# Altium footprint library AMP Footprints.PcbLib: 903 footprints (part 2 of 58)
Each footprint in its own frame and in the unit in brackets; x right, y up, seen from the top. Pads: shape width x height; smd on the part's side, far side on the other; paste and mask are expansions set on the pad; w line width, h text height; cw(c..) or ccw(c..) is an arc to the next point about the centre after c.
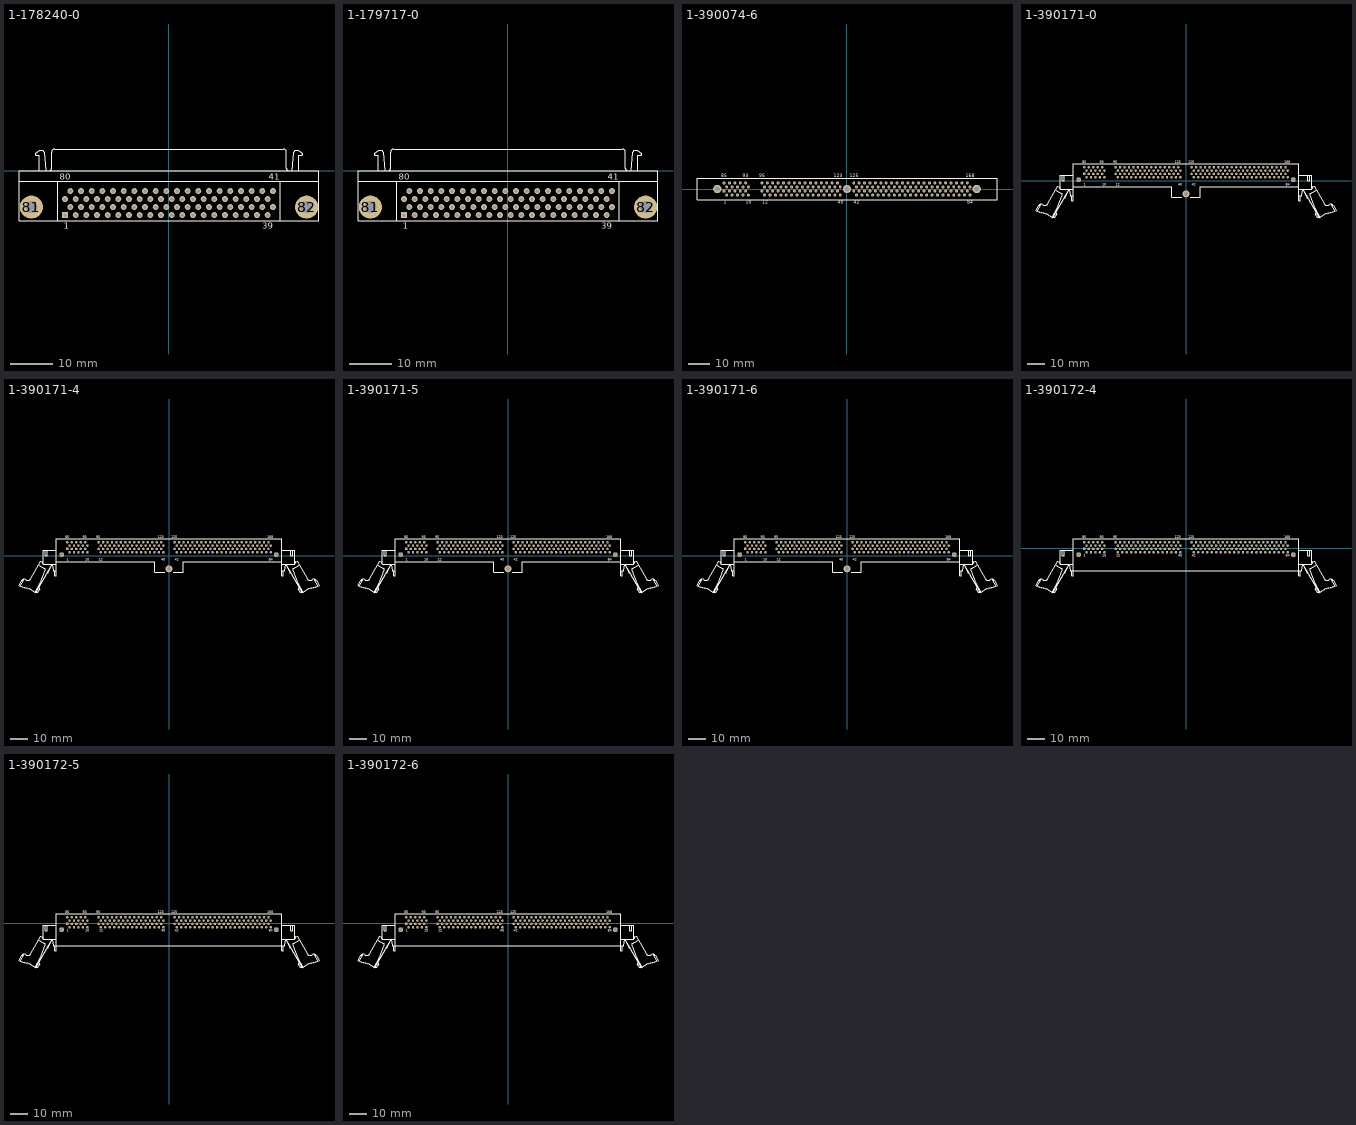
[diagram p1: the footprints below, top view; thin cyan lines are the x and y axes]

## 1-178240-0 [mm] "Connector; CHAMP Miniature Ribbon 050 Series II; 80 Position; Right Angle"
height 9.6
pads (82):
  rect 1.4x1.4 hole 0.8: 1(-24.765,-10.5)
  round 1.4 hole 0.8: 2(-23.495,-8.595) 3(-22.225,-10.5) 4(-20.955,-8.595) 5(-19.685,-10.5) 6(-18.415,-8.595) 7(-17.145,-10.5) 8(-15.875,-8.595) 9(-14.605,-10.5) 10(-13.335,-8.595) 11(-12.065,-10.5) 12(-10.795,-8.595) 13(-9.525,-10.5) 14(-8.255,-8.595) 15(-6.985,-10.5) 16(-5.715,-8.595) 17(-4.445,-10.5) 18(-3.175,-8.595) 19(-1.905,-10.5) 20(-0.635,-8.595) 21(0.635,-10.5) 22(1.905,-8.595) 23(3.175,-10.5) 24(4.445,-8.595) 25(5.715,-10.5) 26(6.985,-8.595) 27(8.255,-10.5) 28(9.525,-8.595) 29(10.795,-10.5) 30(12.065,-8.595) 31(13.335,-10.5) 32(14.605,-8.595) 33(15.875,-10.5) 34(17.145,-8.595) 35(18.415,-10.5) 36(19.685,-8.595) 37(20.955,-10.5) 38(22.225,-8.595) 39(23.495,-10.5) 40(24.765,-8.595) 41(24.765,-4.785) 42(23.495,-6.69) 43(22.225,-4.785) 44(20.955,-6.69) 45(19.685,-4.785) 46(18.415,-6.69) 47(17.145,-4.785) 48(15.875,-6.69) 49(14.605,-4.785) 50(13.335,-6.69) 51(12.065,-4.785) 52(10.795,-6.69) 53(9.525,-4.785) 54(8.255,-6.69) 55(6.985,-4.785) 56(5.715,-6.69) 57(4.445,-4.785) 58(3.175,-6.69) 59(1.905,-4.785) 60(0.635,-6.69) 61(-0.635,-4.785) 62(-1.905,-6.69) 63(-3.175,-4.785) 64(-4.445,-6.69) 65(-5.715,-4.785) 66(-6.985,-6.69) 67(-8.255,-4.785) 68(-9.525,-6.69) 69(-10.795,-4.785) 70(-12.065,-6.69) 71(-13.335,-4.785) 72(-14.605,-6.69) 73(-15.875,-4.785) 74(-17.145,-6.69) 75(-18.415,-4.785) 76(-19.685,-6.69) 77(-20.955,-4.785) 78(-22.225,-6.69) 79(-23.495,-4.785) 80(-24.765,-6.69)
  round 5.5 hole 2.8: 81(-32.775,-8.595) 82(32.775,-8.595)
Top Overlay:
  lines w0.2: -35.725,-2.5 35.725,-2.5 ; -31.74,4.27 -30.8,4.898 -30.078,4.898 cw(c-30.18,4.5) -29.77,4.5 ; -31.726,4.255 ccw(c-31.5,4.01) -31.75,3.79 -30.87,3.79 -30.87,0 ; -29.77,4.52 -29.4,0 ; -28.66,0.005 ccw(c-28.66,0.7) -27.965,0.7 -27.965,4.5 ; -27.96,4.505 cw(c-27.265,4.505) -27.265,5.2 27.265,5.2 cw(c27.265,4.505) 27.96,4.505 ; -26.52,-11.8 -26.52,-2.58 ; 26.52,-11.8 26.52,-2.5 ; 27.965,4.5 27.965,0.7 ccw(c28.66,0.7) 28.66,0.005 ; 29.4,0 29.77,4.52 ; 29.77,4.5 cw(c30.18,4.5) 30.078,4.898 30.8,4.898 31.74,4.27 ; 30.87,0 30.87,3.79 31.75,3.79 ccw(c31.5,4.01) 31.726,4.255 ; -35.725,-11.8 35.725,-11.8 35.725,0 -35.725,0 -35.725,-11.8
  text "41" at 23.765,-2.025 h1.5
  text "80" at -26.015,-2.025 h1.5
  text "39" at 22.245,-13.775 h1.5
  text "1" at -25.015,-13.775 h1.5

## 1-179717-0 [mm] "Connector; CHAMP Miniature Ribbon 050 Series II; 80 Position; Right Angle"
height 9.6
pads (82):
  rect 1.4x1.4 hole 0.8: 1(-24.765,-10.5)
  round 1.4 hole 0.8: 2(-23.495,-8.595) 3(-22.225,-10.5) 4(-20.955,-8.595) 5(-19.685,-10.5) 6(-18.415,-8.595) 7(-17.145,-10.5) 8(-15.875,-8.595) 9(-14.605,-10.5) 10(-13.335,-8.595) 11(-12.065,-10.5) 12(-10.795,-8.595) 13(-9.525,-10.5) 14(-8.255,-8.595) 15(-6.985,-10.5) 16(-5.715,-8.595) 17(-4.445,-10.5) 18(-3.175,-8.595) 19(-1.905,-10.5) 20(-0.635,-8.595) 21(0.635,-10.5) 22(1.905,-8.595) 23(3.175,-10.5) 24(4.445,-8.595) 25(5.715,-10.5) 26(6.985,-8.595) 27(8.255,-10.5) 28(9.525,-8.595) 29(10.795,-10.5) 30(12.065,-8.595) 31(13.335,-10.5) 32(14.605,-8.595) 33(15.875,-10.5) 34(17.145,-8.595) 35(18.415,-10.5) 36(19.685,-8.595) 37(20.955,-10.5) 38(22.225,-8.595) 39(23.495,-10.5) 40(24.765,-8.595) 41(24.765,-4.785) 42(23.495,-6.69) 43(22.225,-4.785) 44(20.955,-6.69) 45(19.685,-4.785) 46(18.415,-6.69) 47(17.145,-4.785) 48(15.875,-6.69) 49(14.605,-4.785) 50(13.335,-6.69) 51(12.065,-4.785) 52(10.795,-6.69) 53(9.525,-4.785) 54(8.255,-6.69) 55(6.985,-4.785) 56(5.715,-6.69) 57(4.445,-4.785) 58(3.175,-6.69) 59(1.905,-4.785) 60(0.635,-6.69) 61(-0.635,-4.785) 62(-1.905,-6.69) 63(-3.175,-4.785) 64(-4.445,-6.69) 65(-5.715,-4.785) 66(-6.985,-6.69) 67(-8.255,-4.785) 68(-9.525,-6.69) 69(-10.795,-4.785) 70(-12.065,-6.69) 71(-13.335,-4.785) 72(-14.605,-6.69) 73(-15.875,-4.785) 74(-17.145,-6.69) 75(-18.415,-4.785) 76(-19.685,-6.69) 77(-20.955,-4.785) 78(-22.225,-6.69) 79(-23.495,-4.785) 80(-24.765,-6.69)
  round 5.5 hole 2.8: 81(-32.775,-8.595) 82(32.775,-8.595)
Top Overlay:
  lines w0.2: -35.725,-2.5 35.725,-2.5 ; -31.74,4.27 -30.8,4.898 -30.078,4.898 cw(c-30.18,4.5) -29.77,4.5 ; -31.726,4.255 ccw(c-31.5,4.01) -31.75,3.79 -30.87,3.79 -30.87,0 ; -29.77,4.52 -29.4,0 ; -28.66,0.005 ccw(c-28.66,0.7) -27.965,0.7 -27.965,4.5 ; -27.96,4.505 cw(c-27.265,4.505) -27.265,5.2 27.265,5.2 cw(c27.265,4.505) 27.96,4.505 ; -26.52,-11.8 -26.52,-2.58 ; 26.52,-11.8 26.52,-2.5 ; 27.965,4.5 27.965,0.7 ccw(c28.66,0.7) 28.66,0.005 ; 29.4,0 29.77,4.52 ; 29.77,4.5 cw(c30.18,4.5) 30.078,4.898 30.8,4.898 31.74,4.27 ; 30.87,0 30.87,3.79 31.75,3.79 ccw(c31.5,4.01) 31.726,4.255 ; -35.725,-11.8 35.725,-11.8 35.725,0 -35.725,0 -35.725,-11.8
  text "41" at 23.765,-2.025 h1.5
  text "80" at -26.015,-2.025 h1.5
  text "39" at 22.245,-13.775 h1.5
  text "1" at -25.015,-13.775 h1.5

## 1-390074-6 [mm] "Connector; DIMM II; 168 Position; Vertical"
height 23.77
pads (171):
  rect 1.4x1.4 hole 0.81: 1(-57.785,-0.95)
  round 1.4 hole 0.81: 2(-56.515,-2.85) 3(-55.245,-0.95) 4(-53.975,-2.85) 5(-52.705,-0.95) 6(-51.435,-2.85) 7(-50.165,-0.95) 8(-48.895,-2.85) 9(-47.625,-0.95) 10(-46.355,-2.85) 11(-40.005,-0.95) 12(-38.735,-2.85) 13(-37.465,-0.95) 14(-36.195,-2.85) 15(-34.925,-0.95) 16(-33.655,-2.85) 17(-32.385,-0.95) 18(-31.115,-2.85) 19(-29.845,-0.95) 20(-28.575,-2.85) 21(-27.305,-0.95) 22(-26.035,-2.85) 23(-24.765,-0.95) 24(-23.495,-2.85) 25(-22.225,-0.95) 26(-20.955,-2.85) 27(-19.685,-0.95) 28(-18.415,-2.85) 29(-17.145,-0.95) 30(-15.875,-2.85) 31(-14.605,-0.95) 32(-13.335,-2.85) 33(-12.065,-0.95) 34(-10.795,-2.85) 35(-9.525,-0.95) 36(-8.255,-2.85) 37(-6.985,-0.95) 38(-5.715,-2.85) 39(-4.445,-0.95) 40(-3.175,-2.85) 41(3.175,-0.95) 42(4.445,-2.85) 43(5.715,-0.95) 44(6.985,-2.85) 45(8.255,-0.95) 46(9.525,-2.85) 47(10.795,-0.95) 48(12.065,-2.85) 49(13.335,-0.95) 50(14.605,-2.85) 51(15.875,-0.95) 52(17.145,-2.85) 53(18.415,-0.95) 54(19.685,-2.85) 55(20.955,-0.95) 56(22.225,-2.85) 57(23.495,-0.95) 58(24.765,-2.85) 59(26.035,-0.95) 60(27.305,-2.85) 61(28.575,-0.95) 62(29.845,-2.85) 63(31.115,-0.95) 64(32.385,-2.85) 65(33.655,-0.95) 66(34.925,-2.85) 67(36.195,-0.95) 68(37.465,-2.85) 69(38.735,-0.95) 70(40.005,-2.85) 71(41.275,-0.95) 72(42.545,-2.85) 73(43.815,-0.95) 74(45.085,-2.85) 75(46.355,-0.95) 76(47.625,-2.85) 77(48.895,-0.95) 78(50.165,-2.85) 79(51.435,-0.95) 80(52.705,-2.85) 81(53.975,-0.95) 82(55.245,-2.85) 83(56.515,-0.95) 84(57.785,-2.85) 85(-57.785,2.85) 86(-56.515,0.95) 87(-55.245,2.85) 88(-53.975,0.95) 89(-52.705,2.85) 90(-51.435,0.95) 91(-50.165,2.85) 92(-48.895,0.95) 93(-47.625,2.85) 94(-46.355,0.95) 95(-40.005,2.85) 96(-38.735,0.95) 97(-37.465,2.85) 98(-36.195,0.95) 99(-34.925,2.85) 100(-33.655,0.95) 101(-32.385,2.85) 102(-31.115,0.95) 103(-29.845,2.85) 104(-28.575,0.95) 105(-27.305,2.85) 106(-26.035,0.95) 107(-24.765,2.85) 108(-23.495,0.95) 109(-22.225,2.85) 110(-20.955,0.95) 111(-19.685,2.85) 112(-18.415,0.95) 113(-17.145,2.85) 114(-15.875,0.95) 115(-14.605,2.85) 116(-13.335,0.95) 117(-12.065,2.85) 118(-10.795,0.95) 119(-9.525,2.85) 120(-8.255,0.95) 121(-6.985,2.85) 122(-5.715,0.95) 123(-4.445,2.85) 124(-3.175,0.95) 125(3.175,2.85) 126(4.445,0.95) 127(5.715,2.85) 128(6.985,0.95) 129(8.255,2.85) 130(9.525,0.95) 131(10.795,2.85) 132(12.065,0.95) 133(13.335,2.85) 134(14.605,0.95) 135(15.875,2.85) 136(17.145,0.95) 137(18.415,2.85) 138(19.685,0.95) 139(20.955,2.85) 140(22.225,0.95) 141(23.495,2.85) 142(24.765,0.95) 143(26.035,2.85) 144(27.305,0.95) 145(28.575,2.85) 146(29.845,0.95) 147(31.115,2.85) 148(32.385,0.95) 149(33.655,2.85) 150(34.925,0.95) 151(36.195,2.85) 152(37.465,0.95) 153(38.735,2.85) 154(40.005,0.95) 155(41.275,2.85) 156(42.545,0.95) 157(43.815,2.85) 158(45.085,0.95) 159(46.355,2.85) 160(47.625,0.95) 161(48.895,2.85) 162(50.165,0.95) 163(51.435,2.85) 164(52.705,0.95) 165(53.975,2.85) 166(55.245,0.95) 167(56.515,2.85) 168(57.785,0.95)
  round 3.9 hole 2.44: 169(-60.955,0) 170(0,0) 171(60.955,0)
Top Overlay:
  lines w0.2: -70.49,-5 70.49,-5 70.49,5 -70.49,5 -70.49,-5
  text "95" at -41.255,5.475 h1.5
  text "12" at -39.86,-6.975 h1.5
  text "1" at -58.035,-6.975 h1.5
  text "85" at -59.035,5.475 h1.5
  text "10" at -47.48,-6.975 h1.5
  text "93" at -48.875,5.475 h1.5
  text "40" at -4.425,-6.975 h1.5
  text "42" at 3.195,-6.975 h1.5
  text "123" at -6.32,5.475 h1.5
  text "125" at 1.3,5.475 h1.5
  text "84" at 56.535,-6.975 h1.5
  text "168" at 55.91,5.475 h1.5

## 1-390171-0 [mm] "Connector; DIMM; 168 Position; Right Angle"
height 13.2
pads (171):
  rect 1.4x1.4 hole 0.81: 1(-57.785,3.755)
  round 1.4 hole 0.81: 2(-56.515,1.855) 3(-55.245,3.755) 4(-53.975,1.855) 5(-52.705,3.755) 6(-51.435,1.855) 7(-50.165,3.755) 8(-48.895,1.855) 9(-47.625,3.755) 10(-46.355,1.855) 11(-40.005,3.755) 12(-38.735,1.855) 13(-37.465,3.755) 14(-36.195,1.855) 15(-34.925,3.755) 16(-33.655,1.855) 17(-32.385,3.755) 18(-31.115,1.855) 19(-29.845,3.755) 20(-28.575,1.855) 21(-27.305,3.755) 22(-26.035,1.855) 23(-24.765,3.755) 24(-23.495,1.855) 25(-22.225,3.755) 26(-20.955,1.855) 27(-19.685,3.755) 28(-18.415,1.855) 29(-17.145,3.755) 30(-15.875,1.855) 31(-14.605,3.755) 32(-13.335,1.855) 33(-12.065,3.755) 34(-10.795,1.855) 35(-9.525,3.755) 36(-8.255,1.855) 37(-6.985,3.755) 38(-5.715,1.855) 39(-4.445,3.755) 40(-3.175,1.855) 41(3.175,3.755) 42(4.445,1.855) 43(5.715,3.755) 44(6.985,1.855) 45(8.255,3.755) 46(9.525,1.855) 47(10.795,3.755) 48(12.065,1.855) 49(13.335,3.755) 50(14.605,1.855) 51(15.875,3.755) 52(17.145,1.855) 53(18.415,3.755) 54(19.685,1.855) 55(20.955,3.755) 56(22.225,1.855) 57(23.495,3.755) 58(24.765,1.855) 59(26.035,3.755) 60(27.305,1.855) 61(28.575,3.755) 62(29.845,1.855) 63(31.115,3.755) 64(32.385,1.855) 65(33.655,3.755) 66(34.925,1.855) 67(36.195,3.755) 68(37.465,1.855) 69(38.735,3.755) 70(40.005,1.855) 71(41.275,3.755) 72(42.545,1.855) 73(43.815,3.755) 74(45.085,1.855) 75(46.355,3.755) 76(47.625,1.855) 77(48.895,3.755) 78(50.165,1.855) 79(51.435,3.755) 80(52.705,1.855) 81(53.975,3.755) 82(55.245,1.855) 83(56.515,3.755) 84(57.785,1.855) 85(-57.785,7.555) 86(-56.515,5.655) 87(-55.245,7.555) 88(-53.975,5.655) 89(-52.705,7.555) 90(-51.435,5.655) 91(-50.165,7.555) 92(-48.895,5.655) 93(-47.625,7.555) 94(-46.355,5.655) 95(-40.005,7.555) 96(-38.735,5.655) 97(-37.465,7.555) 98(-36.195,5.655) 99(-34.925,7.555) 100(-33.655,5.655) 101(-32.385,7.555) 102(-31.115,5.655) 103(-29.845,7.555) 104(-28.575,5.655) 105(-27.305,7.555) 106(-26.035,5.655) 107(-24.765,7.555) 108(-23.495,5.655) 109(-22.225,7.555) 110(-20.955,5.655) 111(-19.685,7.555) 112(-18.415,5.655) 113(-17.145,7.555) 114(-15.875,5.655) 115(-14.605,7.555) 116(-13.335,5.655) 117(-12.065,7.555) 118(-10.795,5.655) 119(-9.525,7.555) 120(-8.255,5.655) 121(-6.985,7.555) 122(-5.715,5.655) 123(-4.445,7.555) 124(-3.175,5.655) 125(3.175,7.555) 126(4.445,5.655) 127(5.715,7.555) 128(6.985,5.655) 129(8.255,7.555) 130(9.525,5.655) 131(10.795,7.555) 132(12.065,5.655) 133(13.335,7.555) 134(14.605,5.655) 135(15.875,7.555) 136(17.145,5.655) 137(18.415,7.555) 138(19.685,5.655) 139(20.955,7.555) 140(22.225,5.655) 141(23.495,7.555) 142(24.765,5.655) 143(26.035,7.555) 144(27.305,5.655) 145(28.575,7.555) 146(29.845,5.655) 147(31.115,7.555) 148(32.385,5.655) 149(33.655,7.555) 150(34.925,5.655) 151(36.195,7.555) 152(37.465,5.655) 153(38.735,7.555) 154(40.005,5.655) 155(41.275,7.555) 156(42.545,5.655) 157(43.815,7.555) 158(45.085,5.655) 159(46.355,7.555) 160(47.625,5.655) 161(48.895,7.555) 162(50.165,5.655) 163(51.435,7.555) 164(52.705,5.655) 165(53.975,7.555) 166(55.245,5.655) 167(56.515,7.555) 168(57.785,5.655)
  round 2.778 hole 1.778: 169(-60.96,0.445) 171(60.96,0.445)
  round 3.94 hole 2.44: 170(0,-7.555)
Top Overlay:
  lines w0.25: -84.364,-17.363 -83.299,-17.978 -83.129,-17.683 -82.072,-18.293 -81.991,-18.271 -81.871,-18.064 -80.918,-18.614 -80.803,-18.414 -79.85,-18.964 -79.705,-18.713 -75.652,-21.053 -66.372,-4.98 -68.472,-9.755 -69.13,-9.755 ; -83.575,-14.216 cw(c-82.222,-14.997) -81.441,-13.644 ; -83.54,-14.155 -85.22,-17.065 -84.467,-17.5 -84.372,-17.335 -82.138,-13.487 ; -81.44,-13.647 -80.959,-13.925 ccw(c-80.125,-12.48) -78.679,-13.314 ; -78.664,-13.31 -72.924,-3.368 -71.52,-2.855 ; -75.999,-20.853 -73.049,-15.744 -70.225,-8.333 ccw(c-70.844,-8.118) -70.588,-7.515 ; -75.622,-21.001 -74.612,-20.972 -73.507,-19.058 -73.92,-18.173 ; -74.124,-5.446 -70.469,-7.556 ; -71.52,-4.675 -72.028,-4.167 -71.52,-3.659 ; -70.32,2.945 -70.32,-0.085 -69.07,-0.085 -69.07,2.945 ; -66.4,-4.925 -65.76,-8.775 -64,-8.775 ; -65.04,-8.805 -65.04,-11.525 -64,-11.525 -64,-8.775 ; -64,-4.855 -71.52,-4.855 -71.52,2.945 -64,2.945 ; -64,-3.555 -8.115,-3.555 -8.115,-9.555 -2.5,-9.555 ; 2.5,-9.555 8.115,-9.555 8.115,-3.555 64,-3.555 ; 64,-4.855 71.52,-4.855 71.52,2.945 64,2.945 ; 65.04,-8.805 65.04,-11.525 64,-11.525 64,-8.775 ; 66.4,-4.925 65.76,-8.775 64,-8.775 ; 69.07,2.945 69.07,-0.085 70.32,-0.085 70.32,2.945 ; 69.13,-9.755 68.472,-9.755 66.372,-4.98 75.652,-21.053 79.705,-18.713 79.85,-18.964 80.803,-18.414 80.918,-18.614 81.871,-18.064 81.991,-18.271 82.072,-18.293 83.129,-17.683 83.299,-17.978 84.364,-17.363 ; 70.469,-7.556 74.124,-5.446 ; 70.588,-7.515 ccw(c70.844,-8.118) 70.225,-8.333 73.049,-15.744 75.999,-20.853 ; 71.52,-4.675 72.028,-4.167 71.52,-3.659 ; 71.52,-2.855 72.924,-3.368 78.664,-13.31 ; 73.92,-18.173 73.507,-19.058 74.612,-20.972 75.622,-21.001 ; 78.679,-13.314 ccw(c80.125,-12.48) 80.959,-13.925 81.44,-13.647 ; 81.441,-13.644 cw(c82.222,-14.997) 83.575,-14.216 ; 82.138,-13.487 84.372,-17.335 84.467,-17.5 85.22,-17.065 83.54,-14.155 ; -64,-8.775 -64,2.945 ; -64,2.945 -64,9.445 64,9.445 64,2.945 ; 64,-8.775 64,2.945
  text "1" at -58.035,-3.08 h1.5
  text "85" at -59.035,9.92 h1.5
  text "10" at -47.48,-3.08 h1.5
  text "93" at -48.875,9.92 h1.5
  text "95" at -41.255,9.92 h1.5
  text "40" at -4.425,-3.08 h1.5
  text "123" at -6.32,9.92 h1.5
  text "125" at 1.3,9.92 h1.5
  text "42" at 3.195,-3.08 h1.5
  text "84" at 56.535,-3.08 h1.5
  text "168" at 55.91,9.92 h1.5
  text "12" at -39.86,-3.08 h1.5

## 1-390171-4 [mm] "Connector; DIMM; 168 Position; Right Angle"
height 14.85
pads (171):
  rect 1.4x1.4 hole 0.81: 1(-57.785,3.755)
  round 1.4 hole 0.81: 2(-56.515,1.855) 3(-55.245,3.755) 4(-53.975,1.855) 5(-52.705,3.755) 6(-51.435,1.855) 7(-50.165,3.755) 8(-48.895,1.855) 9(-47.625,3.755) 10(-46.355,1.855) 11(-40.005,3.755) 12(-38.735,1.855) 13(-37.465,3.755) 14(-36.195,1.855) 15(-34.925,3.755) 16(-33.655,1.855) 17(-32.385,3.755) 18(-31.115,1.855) 19(-29.845,3.755) 20(-28.575,1.855) 21(-27.305,3.755) 22(-26.035,1.855) 23(-24.765,3.755) 24(-23.495,1.855) 25(-22.225,3.755) 26(-20.955,1.855) 27(-19.685,3.755) 28(-18.415,1.855) 29(-17.145,3.755) 30(-15.875,1.855) 31(-14.605,3.755) 32(-13.335,1.855) 33(-12.065,3.755) 34(-10.795,1.855) 35(-9.525,3.755) 36(-8.255,1.855) 37(-6.985,3.755) 38(-5.715,1.855) 39(-4.445,3.755) 40(-3.175,1.855) 41(3.175,3.755) 42(4.445,1.855) 43(5.715,3.755) 44(6.985,1.855) 45(8.255,3.755) 46(9.525,1.855) 47(10.795,3.755) 48(12.065,1.855) 49(13.335,3.755) 50(14.605,1.855) 51(15.875,3.755) 52(17.145,1.855) 53(18.415,3.755) 54(19.685,1.855) 55(20.955,3.755) 56(22.225,1.855) 57(23.495,3.755) 58(24.765,1.855) 59(26.035,3.755) 60(27.305,1.855) 61(28.575,3.755) 62(29.845,1.855) 63(31.115,3.755) 64(32.385,1.855) 65(33.655,3.755) 66(34.925,1.855) 67(36.195,3.755) 68(37.465,1.855) 69(38.735,3.755) 70(40.005,1.855) 71(41.275,3.755) 72(42.545,1.855) 73(43.815,3.755) 74(45.085,1.855) 75(46.355,3.755) 76(47.625,1.855) 77(48.895,3.755) 78(50.165,1.855) 79(51.435,3.755) 80(52.705,1.855) 81(53.975,3.755) 82(55.245,1.855) 83(56.515,3.755) 84(57.785,1.855) 85(-57.785,7.555) 86(-56.515,5.655) 87(-55.245,7.555) 88(-53.975,5.655) 89(-52.705,7.555) 90(-51.435,5.655) 91(-50.165,7.555) 92(-48.895,5.655) 93(-47.625,7.555) 94(-46.355,5.655) 95(-40.005,7.555) 96(-38.735,5.655) 97(-37.465,7.555) 98(-36.195,5.655) 99(-34.925,7.555) 100(-33.655,5.655) 101(-32.385,7.555) 102(-31.115,5.655) 103(-29.845,7.555) 104(-28.575,5.655) 105(-27.305,7.555) 106(-26.035,5.655) 107(-24.765,7.555) 108(-23.495,5.655) 109(-22.225,7.555) 110(-20.955,5.655) 111(-19.685,7.555) 112(-18.415,5.655) 113(-17.145,7.555) 114(-15.875,5.655) 115(-14.605,7.555) 116(-13.335,5.655) 117(-12.065,7.555) 118(-10.795,5.655) 119(-9.525,7.555) 120(-8.255,5.655) 121(-6.985,7.555) 122(-5.715,5.655) 123(-4.445,7.555) 124(-3.175,5.655) 125(3.175,7.555) 126(4.445,5.655) 127(5.715,7.555) 128(6.985,5.655) 129(8.255,7.555) 130(9.525,5.655) 131(10.795,7.555) 132(12.065,5.655) 133(13.335,7.555) 134(14.605,5.655) 135(15.875,7.555) 136(17.145,5.655) 137(18.415,7.555) 138(19.685,5.655) 139(20.955,7.555) 140(22.225,5.655) 141(23.495,7.555) 142(24.765,5.655) 143(26.035,7.555) 144(27.305,5.655) 145(28.575,7.555) 146(29.845,5.655) 147(31.115,7.555) 148(32.385,5.655) 149(33.655,7.555) 150(34.925,5.655) 151(36.195,7.555) 152(37.465,5.655) 153(38.735,7.555) 154(40.005,5.655) 155(41.275,7.555) 156(42.545,5.655) 157(43.815,7.555) 158(45.085,5.655) 159(46.355,7.555) 160(47.625,5.655) 161(48.895,7.555) 162(50.165,5.655) 163(51.435,7.555) 164(52.705,5.655) 165(53.975,7.555) 166(55.245,5.655) 167(56.515,7.555) 168(57.785,5.655)
  round 2.778 hole 1.778: 169(-60.96,0.445) 171(60.96,0.445)
  round 3.94 hole 2.44: 170(0,-7.555)
Top Overlay:
  lines w0.25: -84.364,-17.363 -83.299,-17.978 -83.129,-17.683 -82.072,-18.293 -81.991,-18.271 -81.871,-18.064 -80.918,-18.614 -80.803,-18.414 -79.85,-18.964 -79.705,-18.713 -75.652,-21.053 -66.372,-4.98 -68.472,-9.755 -69.13,-9.755 ; -83.575,-14.216 cw(c-82.222,-14.997) -81.441,-13.644 ; -83.54,-14.155 -85.22,-17.065 -84.467,-17.5 -84.372,-17.335 -82.138,-13.487 ; -81.44,-13.647 -80.959,-13.925 ccw(c-80.125,-12.48) -78.679,-13.314 ; -78.664,-13.31 -72.924,-3.368 -71.52,-2.855 ; -75.999,-20.853 -73.049,-15.744 -70.225,-8.333 ccw(c-70.844,-8.118) -70.588,-7.515 ; -75.622,-21.001 -74.612,-20.972 -73.507,-19.058 -73.92,-18.173 ; -74.124,-5.446 -70.469,-7.556 ; -71.52,-4.675 -72.028,-4.167 -71.52,-3.659 ; -70.32,2.945 -70.32,-0.085 -69.07,-0.085 -69.07,2.945 ; -66.4,-4.925 -65.76,-8.775 -64,-8.775 ; -65.04,-8.805 -65.04,-11.525 -64,-11.525 -64,-8.775 ; -64,-4.855 -71.52,-4.855 -71.52,2.945 -64,2.945 ; -64,-3.555 -8.115,-3.555 -8.115,-9.555 -2.5,-9.555 ; 2.5,-9.555 8.115,-9.555 8.115,-3.555 64,-3.555 ; 64,-4.855 71.52,-4.855 71.52,2.945 64,2.945 ; 65.04,-8.805 65.04,-11.525 64,-11.525 64,-8.775 ; 66.4,-4.925 65.76,-8.775 64,-8.775 ; 69.07,2.945 69.07,-0.085 70.32,-0.085 70.32,2.945 ; 69.13,-9.755 68.472,-9.755 66.372,-4.98 75.652,-21.053 79.705,-18.713 79.85,-18.964 80.803,-18.414 80.918,-18.614 81.871,-18.064 81.991,-18.271 82.072,-18.293 83.129,-17.683 83.299,-17.978 84.364,-17.363 ; 70.469,-7.556 74.124,-5.446 ; 70.588,-7.515 ccw(c70.844,-8.118) 70.225,-8.333 73.049,-15.744 75.999,-20.853 ; 71.52,-4.675 72.028,-4.167 71.52,-3.659 ; 71.52,-2.855 72.924,-3.368 78.664,-13.31 ; 73.92,-18.173 73.507,-19.058 74.612,-20.972 75.622,-21.001 ; 78.679,-13.314 ccw(c80.125,-12.48) 80.959,-13.925 81.44,-13.647 ; 81.441,-13.644 cw(c82.222,-14.997) 83.575,-14.216 ; 82.138,-13.487 84.372,-17.335 84.467,-17.5 85.22,-17.065 83.54,-14.155 ; -64,-8.775 -64,2.945 ; -64,2.945 -64,9.445 64,9.445 64,2.945 ; 64,-8.775 64,2.945
  text "1" at -58.035,-3.08 h1.5
  text "85" at -59.035,9.92 h1.5
  text "10" at -47.48,-3.08 h1.5
  text "93" at -48.875,9.92 h1.5
  text "95" at -41.255,9.92 h1.5
  text "40" at -4.425,-3.08 h1.5
  text "123" at -6.32,9.92 h1.5
  text "125" at 1.3,9.92 h1.5
  text "42" at 3.195,-3.08 h1.5
  text "84" at 56.535,-3.08 h1.5
  text "168" at 55.91,9.92 h1.5
  text "12" at -39.86,-3.08 h1.5

## 1-390171-5 [mm] "Connector; DIMM; 168 Position; Right Angle"
height 14.85
pads (171):
  rect 1.4x1.4 hole 0.81: 1(-57.785,3.755)
  round 1.4 hole 0.81: 2(-56.515,1.855) 3(-55.245,3.755) 4(-53.975,1.855) 5(-52.705,3.755) 6(-51.435,1.855) 7(-50.165,3.755) 8(-48.895,1.855) 9(-47.625,3.755) 10(-46.355,1.855) 11(-40.005,3.755) 12(-38.735,1.855) 13(-37.465,3.755) 14(-36.195,1.855) 15(-34.925,3.755) 16(-33.655,1.855) 17(-32.385,3.755) 18(-31.115,1.855) 19(-29.845,3.755) 20(-28.575,1.855) 21(-27.305,3.755) 22(-26.035,1.855) 23(-24.765,3.755) 24(-23.495,1.855) 25(-22.225,3.755) 26(-20.955,1.855) 27(-19.685,3.755) 28(-18.415,1.855) 29(-17.145,3.755) 30(-15.875,1.855) 31(-14.605,3.755) 32(-13.335,1.855) 33(-12.065,3.755) 34(-10.795,1.855) 35(-9.525,3.755) 36(-8.255,1.855) 37(-6.985,3.755) 38(-5.715,1.855) 39(-4.445,3.755) 40(-3.175,1.855) 41(3.175,3.755) 42(4.445,1.855) 43(5.715,3.755) 44(6.985,1.855) 45(8.255,3.755) 46(9.525,1.855) 47(10.795,3.755) 48(12.065,1.855) 49(13.335,3.755) 50(14.605,1.855) 51(15.875,3.755) 52(17.145,1.855) 53(18.415,3.755) 54(19.685,1.855) 55(20.955,3.755) 56(22.225,1.855) 57(23.495,3.755) 58(24.765,1.855) 59(26.035,3.755) 60(27.305,1.855) 61(28.575,3.755) 62(29.845,1.855) 63(31.115,3.755) 64(32.385,1.855) 65(33.655,3.755) 66(34.925,1.855) 67(36.195,3.755) 68(37.465,1.855) 69(38.735,3.755) 70(40.005,1.855) 71(41.275,3.755) 72(42.545,1.855) 73(43.815,3.755) 74(45.085,1.855) 75(46.355,3.755) 76(47.625,1.855) 77(48.895,3.755) 78(50.165,1.855) 79(51.435,3.755) 80(52.705,1.855) 81(53.975,3.755) 82(55.245,1.855) 83(56.515,3.755) 84(57.785,1.855) 85(-57.785,7.555) 86(-56.515,5.655) 87(-55.245,7.555) 88(-53.975,5.655) 89(-52.705,7.555) 90(-51.435,5.655) 91(-50.165,7.555) 92(-48.895,5.655) 93(-47.625,7.555) 94(-46.355,5.655) 95(-40.005,7.555) 96(-38.735,5.655) 97(-37.465,7.555) 98(-36.195,5.655) 99(-34.925,7.555) 100(-33.655,5.655) 101(-32.385,7.555) 102(-31.115,5.655) 103(-29.845,7.555) 104(-28.575,5.655) 105(-27.305,7.555) 106(-26.035,5.655) 107(-24.765,7.555) 108(-23.495,5.655) 109(-22.225,7.555) 110(-20.955,5.655) 111(-19.685,7.555) 112(-18.415,5.655) 113(-17.145,7.555) 114(-15.875,5.655) 115(-14.605,7.555) 116(-13.335,5.655) 117(-12.065,7.555) 118(-10.795,5.655) 119(-9.525,7.555) 120(-8.255,5.655) 121(-6.985,7.555) 122(-5.715,5.655) 123(-4.445,7.555) 124(-3.175,5.655) 125(3.175,7.555) 126(4.445,5.655) 127(5.715,7.555) 128(6.985,5.655) 129(8.255,7.555) 130(9.525,5.655) 131(10.795,7.555) 132(12.065,5.655) 133(13.335,7.555) 134(14.605,5.655) 135(15.875,7.555) 136(17.145,5.655) 137(18.415,7.555) 138(19.685,5.655) 139(20.955,7.555) 140(22.225,5.655) 141(23.495,7.555) 142(24.765,5.655) 143(26.035,7.555) 144(27.305,5.655) 145(28.575,7.555) 146(29.845,5.655) 147(31.115,7.555) 148(32.385,5.655) 149(33.655,7.555) 150(34.925,5.655) 151(36.195,7.555) 152(37.465,5.655) 153(38.735,7.555) 154(40.005,5.655) 155(41.275,7.555) 156(42.545,5.655) 157(43.815,7.555) 158(45.085,5.655) 159(46.355,7.555) 160(47.625,5.655) 161(48.895,7.555) 162(50.165,5.655) 163(51.435,7.555) 164(52.705,5.655) 165(53.975,7.555) 166(55.245,5.655) 167(56.515,7.555) 168(57.785,5.655)
  round 2.778 hole 1.778: 169(-60.96,0.445) 171(60.96,0.445)
  round 3.94 hole 2.44: 170(0,-7.555)
Top Overlay:
  lines w0.25: -84.364,-17.363 -83.299,-17.978 -83.129,-17.683 -82.072,-18.293 -81.991,-18.271 -81.871,-18.064 -80.918,-18.614 -80.803,-18.414 -79.85,-18.964 -79.705,-18.713 -75.652,-21.053 -66.372,-4.98 -68.472,-9.755 -69.13,-9.755 ; -83.575,-14.216 cw(c-82.222,-14.997) -81.441,-13.644 ; -83.54,-14.155 -85.22,-17.065 -84.467,-17.5 -84.372,-17.335 -82.138,-13.487 ; -81.44,-13.647 -80.959,-13.925 ccw(c-80.125,-12.48) -78.679,-13.314 ; -78.664,-13.31 -72.924,-3.368 -71.52,-2.855 ; -75.999,-20.853 -73.049,-15.744 -70.225,-8.333 ccw(c-70.844,-8.118) -70.588,-7.515 ; -75.622,-21.001 -74.612,-20.972 -73.507,-19.058 -73.92,-18.173 ; -74.124,-5.446 -70.469,-7.556 ; -71.52,-4.675 -72.028,-4.167 -71.52,-3.659 ; -70.32,2.945 -70.32,-0.085 -69.07,-0.085 -69.07,2.945 ; -66.4,-4.925 -65.76,-8.775 -64,-8.775 ; -65.04,-8.805 -65.04,-11.525 -64,-11.525 -64,-8.775 ; -64,-4.855 -71.52,-4.855 -71.52,2.945 -64,2.945 ; -64,-3.555 -8.115,-3.555 -8.115,-9.555 -2.5,-9.555 ; 2.5,-9.555 8.115,-9.555 8.115,-3.555 64,-3.555 ; 64,-4.855 71.52,-4.855 71.52,2.945 64,2.945 ; 65.04,-8.805 65.04,-11.525 64,-11.525 64,-8.775 ; 66.4,-4.925 65.76,-8.775 64,-8.775 ; 69.07,2.945 69.07,-0.085 70.32,-0.085 70.32,2.945 ; 69.13,-9.755 68.472,-9.755 66.372,-4.98 75.652,-21.053 79.705,-18.713 79.85,-18.964 80.803,-18.414 80.918,-18.614 81.871,-18.064 81.991,-18.271 82.072,-18.293 83.129,-17.683 83.299,-17.978 84.364,-17.363 ; 70.469,-7.556 74.124,-5.446 ; 70.588,-7.515 ccw(c70.844,-8.118) 70.225,-8.333 73.049,-15.744 75.999,-20.853 ; 71.52,-4.675 72.028,-4.167 71.52,-3.659 ; 71.52,-2.855 72.924,-3.368 78.664,-13.31 ; 73.92,-18.173 73.507,-19.058 74.612,-20.972 75.622,-21.001 ; 78.679,-13.314 ccw(c80.125,-12.48) 80.959,-13.925 81.44,-13.647 ; 81.441,-13.644 cw(c82.222,-14.997) 83.575,-14.216 ; 82.138,-13.487 84.372,-17.335 84.467,-17.5 85.22,-17.065 83.54,-14.155 ; -64,-8.775 -64,2.945 ; -64,2.945 -64,9.445 64,9.445 64,2.945 ; 64,-8.775 64,2.945
  text "1" at -58.035,-3.08 h1.5
  text "85" at -59.035,9.92 h1.5
  text "10" at -47.48,-3.08 h1.5
  text "93" at -48.875,9.92 h1.5
  text "95" at -41.255,9.92 h1.5
  text "40" at -4.425,-3.08 h1.5
  text "123" at -6.32,9.92 h1.5
  text "125" at 1.3,9.92 h1.5
  text "42" at 3.195,-3.08 h1.5
  text "84" at 56.535,-3.08 h1.5
  text "168" at 55.91,9.92 h1.5
  text "12" at -39.86,-3.08 h1.5

## 1-390171-6 [mm] "Connector; DIMM; 168 Position; Right Angle"
height 14.85
pads (171):
  rect 1.4x1.4 hole 0.81: 1(-57.785,3.755)
  round 1.4 hole 0.81: 2(-56.515,1.855) 3(-55.245,3.755) 4(-53.975,1.855) 5(-52.705,3.755) 6(-51.435,1.855) 7(-50.165,3.755) 8(-48.895,1.855) 9(-47.625,3.755) 10(-46.355,1.855) 11(-40.005,3.755) 12(-38.735,1.855) 13(-37.465,3.755) 14(-36.195,1.855) 15(-34.925,3.755) 16(-33.655,1.855) 17(-32.385,3.755) 18(-31.115,1.855) 19(-29.845,3.755) 20(-28.575,1.855) 21(-27.305,3.755) 22(-26.035,1.855) 23(-24.765,3.755) 24(-23.495,1.855) 25(-22.225,3.755) 26(-20.955,1.855) 27(-19.685,3.755) 28(-18.415,1.855) 29(-17.145,3.755) 30(-15.875,1.855) 31(-14.605,3.755) 32(-13.335,1.855) 33(-12.065,3.755) 34(-10.795,1.855) 35(-9.525,3.755) 36(-8.255,1.855) 37(-6.985,3.755) 38(-5.715,1.855) 39(-4.445,3.755) 40(-3.175,1.855) 41(3.175,3.755) 42(4.445,1.855) 43(5.715,3.755) 44(6.985,1.855) 45(8.255,3.755) 46(9.525,1.855) 47(10.795,3.755) 48(12.065,1.855) 49(13.335,3.755) 50(14.605,1.855) 51(15.875,3.755) 52(17.145,1.855) 53(18.415,3.755) 54(19.685,1.855) 55(20.955,3.755) 56(22.225,1.855) 57(23.495,3.755) 58(24.765,1.855) 59(26.035,3.755) 60(27.305,1.855) 61(28.575,3.755) 62(29.845,1.855) 63(31.115,3.755) 64(32.385,1.855) 65(33.655,3.755) 66(34.925,1.855) 67(36.195,3.755) 68(37.465,1.855) 69(38.735,3.755) 70(40.005,1.855) 71(41.275,3.755) 72(42.545,1.855) 73(43.815,3.755) 74(45.085,1.855) 75(46.355,3.755) 76(47.625,1.855) 77(48.895,3.755) 78(50.165,1.855) 79(51.435,3.755) 80(52.705,1.855) 81(53.975,3.755) 82(55.245,1.855) 83(56.515,3.755) 84(57.785,1.855) 85(-57.785,7.555) 86(-56.515,5.655) 87(-55.245,7.555) 88(-53.975,5.655) 89(-52.705,7.555) 90(-51.435,5.655) 91(-50.165,7.555) 92(-48.895,5.655) 93(-47.625,7.555) 94(-46.355,5.655) 95(-40.005,7.555) 96(-38.735,5.655) 97(-37.465,7.555) 98(-36.195,5.655) 99(-34.925,7.555) 100(-33.655,5.655) 101(-32.385,7.555) 102(-31.115,5.655) 103(-29.845,7.555) 104(-28.575,5.655) 105(-27.305,7.555) 106(-26.035,5.655) 107(-24.765,7.555) 108(-23.495,5.655) 109(-22.225,7.555) 110(-20.955,5.655) 111(-19.685,7.555) 112(-18.415,5.655) 113(-17.145,7.555) 114(-15.875,5.655) 115(-14.605,7.555) 116(-13.335,5.655) 117(-12.065,7.555) 118(-10.795,5.655) 119(-9.525,7.555) 120(-8.255,5.655) 121(-6.985,7.555) 122(-5.715,5.655) 123(-4.445,7.555) 124(-3.175,5.655) 125(3.175,7.555) 126(4.445,5.655) 127(5.715,7.555) 128(6.985,5.655) 129(8.255,7.555) 130(9.525,5.655) 131(10.795,7.555) 132(12.065,5.655) 133(13.335,7.555) 134(14.605,5.655) 135(15.875,7.555) 136(17.145,5.655) 137(18.415,7.555) 138(19.685,5.655) 139(20.955,7.555) 140(22.225,5.655) 141(23.495,7.555) 142(24.765,5.655) 143(26.035,7.555) 144(27.305,5.655) 145(28.575,7.555) 146(29.845,5.655) 147(31.115,7.555) 148(32.385,5.655) 149(33.655,7.555) 150(34.925,5.655) 151(36.195,7.555) 152(37.465,5.655) 153(38.735,7.555) 154(40.005,5.655) 155(41.275,7.555) 156(42.545,5.655) 157(43.815,7.555) 158(45.085,5.655) 159(46.355,7.555) 160(47.625,5.655) 161(48.895,7.555) 162(50.165,5.655) 163(51.435,7.555) 164(52.705,5.655) 165(53.975,7.555) 166(55.245,5.655) 167(56.515,7.555) 168(57.785,5.655)
  round 2.778 hole 1.778: 169(-60.96,0.445) 171(60.96,0.445)
  round 3.94 hole 2.44: 170(0,-7.555)
Top Overlay:
  lines w0.25: -84.364,-17.363 -83.299,-17.978 -83.129,-17.683 -82.072,-18.293 -81.991,-18.271 -81.871,-18.064 -80.918,-18.614 -80.803,-18.414 -79.85,-18.964 -79.705,-18.713 -75.652,-21.053 -66.372,-4.98 -68.472,-9.755 -69.13,-9.755 ; -83.575,-14.216 cw(c-82.222,-14.997) -81.441,-13.644 ; -83.54,-14.155 -85.22,-17.065 -84.467,-17.5 -84.372,-17.335 -82.138,-13.487 ; -81.44,-13.647 -80.959,-13.925 ccw(c-80.125,-12.48) -78.679,-13.314 ; -78.664,-13.31 -72.924,-3.368 -71.52,-2.855 ; -75.999,-20.853 -73.049,-15.744 -70.225,-8.333 ccw(c-70.844,-8.118) -70.588,-7.515 ; -75.622,-21.001 -74.612,-20.972 -73.507,-19.058 -73.92,-18.173 ; -74.124,-5.446 -70.469,-7.556 ; -71.52,-4.675 -72.028,-4.167 -71.52,-3.659 ; -70.32,2.945 -70.32,-0.085 -69.07,-0.085 -69.07,2.945 ; -66.4,-4.925 -65.76,-8.775 -64,-8.775 ; -65.04,-8.805 -65.04,-11.525 -64,-11.525 -64,-8.775 ; -64,-4.855 -71.52,-4.855 -71.52,2.945 -64,2.945 ; -64,-3.555 -8.115,-3.555 -8.115,-9.555 -2.5,-9.555 ; 2.5,-9.555 8.115,-9.555 8.115,-3.555 64,-3.555 ; 64,-4.855 71.52,-4.855 71.52,2.945 64,2.945 ; 65.04,-8.805 65.04,-11.525 64,-11.525 64,-8.775 ; 66.4,-4.925 65.76,-8.775 64,-8.775 ; 69.07,2.945 69.07,-0.085 70.32,-0.085 70.32,2.945 ; 69.13,-9.755 68.472,-9.755 66.372,-4.98 75.652,-21.053 79.705,-18.713 79.85,-18.964 80.803,-18.414 80.918,-18.614 81.871,-18.064 81.991,-18.271 82.072,-18.293 83.129,-17.683 83.299,-17.978 84.364,-17.363 ; 70.469,-7.556 74.124,-5.446 ; 70.588,-7.515 ccw(c70.844,-8.118) 70.225,-8.333 73.049,-15.744 75.999,-20.853 ; 71.52,-4.675 72.028,-4.167 71.52,-3.659 ; 71.52,-2.855 72.924,-3.368 78.664,-13.31 ; 73.92,-18.173 73.507,-19.058 74.612,-20.972 75.622,-21.001 ; 78.679,-13.314 ccw(c80.125,-12.48) 80.959,-13.925 81.44,-13.647 ; 81.441,-13.644 cw(c82.222,-14.997) 83.575,-14.216 ; 82.138,-13.487 84.372,-17.335 84.467,-17.5 85.22,-17.065 83.54,-14.155 ; -64,-8.775 -64,2.945 ; -64,2.945 -64,9.445 64,9.445 64,2.945 ; 64,-8.775 64,2.945
  text "1" at -58.035,-3.08 h1.5
  text "85" at -59.035,9.92 h1.5
  text "10" at -47.48,-3.08 h1.5
  text "93" at -48.875,9.92 h1.5
  text "95" at -41.255,9.92 h1.5
  text "40" at -4.425,-3.08 h1.5
  text "123" at -6.32,9.92 h1.5
  text "125" at 1.3,9.92 h1.5
  text "42" at 3.195,-3.08 h1.5
  text "84" at 56.535,-3.08 h1.5
  text "168" at 55.91,9.92 h1.5
  text "12" at -39.86,-3.08 h1.5

## 1-390172-4 [mm] "Connector; DIMM II; 168 Position; Right Angle"
height 12.7
pads (170):
  rect 1.4x1.4 hole 0.8: 1(-57.785,-0.245)
  round 1.4 hole 0.8: 2(-56.515,-2.145) 3(-55.245,-0.245) 4(-53.975,-2.145) 5(-52.705,-0.245) 6(-51.435,-2.145) 7(-50.165,-0.245) 8(-48.895,-2.145) 9(-47.625,-0.245) 10(-46.355,-2.145) 11(-40.005,-0.245) 12(-38.735,-2.145) 13(-37.465,-0.245) 14(-36.195,-2.145) 15(-34.925,-0.245) 16(-33.655,-2.145) 17(-32.385,-0.245) 18(-31.115,-2.145) 19(-29.845,-0.245) 20(-28.575,-2.145) 21(-27.305,-0.245) 22(-26.035,-2.145) 23(-24.765,-0.245) 24(-23.495,-2.145) 25(-22.225,-0.245) 26(-20.955,-2.145) 27(-19.685,-0.245) 28(-18.415,-2.145) 29(-17.145,-0.245) 30(-15.875,-2.145) 31(-14.605,-0.245) 32(-13.335,-2.145) 33(-12.065,-0.245) 34(-10.795,-2.145) 35(-9.525,-0.245) 36(-8.255,-2.145) 37(-6.985,-0.245) 38(-5.715,-2.145) 39(-4.445,-0.245) 40(-3.175,-2.145) 41(3.175,-0.245) 42(4.445,-2.145) 43(5.715,-0.245) 44(6.985,-2.145) 45(8.255,-0.245) 46(9.525,-2.145) 47(10.795,-0.245) 48(12.065,-2.145) 49(13.335,-0.245) 50(14.605,-2.145) 51(15.875,-0.245) 52(17.145,-2.145) 53(18.415,-0.245) 54(19.685,-2.145) 55(20.955,-0.245) 56(22.225,-2.145) 57(23.495,-0.245) 58(24.765,-2.145) 59(26.035,-0.245) 60(27.305,-2.145) 61(28.575,-0.245) 62(29.845,-2.145) 63(31.115,-0.245) 64(32.385,-2.145) 65(33.655,-0.245) 66(34.925,-2.145) 67(36.195,-0.245) 68(37.465,-2.145) 69(38.735,-0.245) 70(40.005,-2.145) 71(41.275,-0.245) 72(42.545,-2.145) 73(43.815,-0.245) 74(45.085,-2.145) 75(46.355,-0.245) 76(47.625,-2.145) 77(48.895,-0.245) 78(50.165,-2.145) 79(51.435,-0.245) 80(52.705,-2.145) 81(53.975,-0.245) 82(55.245,-2.145) 83(56.515,-0.245) 84(57.785,-2.145) 85(-57.785,3.555) 86(-56.515,1.655) 87(-55.245,3.555) 88(-53.975,1.655) 89(-52.705,3.555) 90(-51.435,1.655) 91(-50.165,3.555) 92(-48.895,1.655) 93(-47.625,3.555) 94(-46.355,1.655) 95(-40.005,3.555) 96(-38.735,1.655) 97(-37.465,3.555) 98(-36.195,1.655) 99(-34.925,3.555) 100(-33.655,1.655) 101(-32.385,3.555) 102(-31.115,1.655) 103(-29.845,3.555) 104(-28.575,1.655) 105(-27.305,3.555) 106(-26.035,1.655) 107(-24.765,3.555) 108(-23.495,1.655) 109(-22.225,3.555) 110(-20.955,1.655) 111(-19.685,3.555) 112(-18.415,1.655) 113(-17.145,3.555) 114(-15.875,1.655) 115(-14.605,3.555) 116(-13.335,1.655) 117(-12.065,3.555) 118(-10.795,1.655) 119(-9.525,3.555) 120(-8.255,1.655) 121(-6.985,3.555) 122(-5.715,1.655) 123(-4.445,3.555) 124(-3.175,1.655) 125(3.175,3.555) 126(4.445,1.655) 127(5.715,3.555) 128(6.985,1.655) 129(8.255,3.555) 130(9.525,1.655) 131(10.795,3.555) 132(12.065,1.655) 133(13.335,3.555) 134(14.605,1.655) 135(15.875,3.555) 136(17.145,1.655) 137(18.415,3.555) 138(19.685,1.655) 139(20.955,3.555) 140(22.225,1.655) 141(23.495,3.555) 142(24.765,1.655) 143(26.035,3.555) 144(27.305,1.655) 145(28.575,3.555) 146(29.845,1.655) 147(31.115,3.555) 148(32.385,1.655) 149(33.655,3.555) 150(34.925,1.655) 151(36.195,3.555) 152(37.465,1.655) 153(38.735,3.555) 154(40.005,1.655) 155(41.275,3.555) 156(42.545,1.655) 157(43.815,3.555) 158(45.085,1.655) 159(46.355,3.555) 160(47.625,1.655) 161(48.895,3.555) 162(50.165,1.655) 163(51.435,3.555) 164(52.705,1.655) 165(53.975,3.555) 166(55.245,1.655) 167(56.515,3.555) 168(57.785,1.655)
  round 2.778 hole 1.778: 169(-60.96,-3.555) 170(60.96,-3.555)
Top Overlay:
  lines w0.25: -84.364,-21.363 -83.299,-21.978 -83.129,-21.683 -82.072,-22.293 -81.991,-22.271 -81.871,-22.064 -80.918,-22.614 -80.803,-22.414 -79.85,-22.964 -79.705,-22.713 -75.652,-25.053 -66.372,-8.98 -68.472,-13.755 -69.13,-13.755 ; -83.575,-18.216 cw(c-82.222,-18.997) -81.441,-17.644 ; -83.54,-18.155 -85.22,-21.065 -84.467,-21.5 -84.372,-21.335 -82.138,-17.487 ; -81.44,-17.647 -80.959,-17.925 ccw(c-80.125,-16.48) -78.679,-17.314 ; -78.664,-17.31 -72.924,-7.368 -71.52,-6.855 ; -75.999,-24.853 -73.049,-19.744 -70.225,-12.333 ccw(c-70.844,-12.118) -70.588,-11.515 ; -75.622,-25.001 -74.612,-24.972 -73.507,-23.058 -73.92,-22.173 ; -74.124,-9.446 -70.469,-11.556 ; -71.52,-8.675 -72.028,-8.167 -71.52,-7.659 ; -70.32,-1.055 -70.32,-4.085 -69.07,-4.085 -69.07,-1.055 ; -66.4,-8.925 -65.76,-12.775 -64,-12.775 ; -65.04,-12.805 -65.04,-15.525 -64,-15.525 -64,-12.775 ; -64,-8.855 -71.52,-8.855 -71.52,-1.055 -64,-1.055 ; 64,-8.855 71.52,-8.855 71.52,-1.055 64,-1.055 ; 65.04,-12.805 65.04,-15.525 64,-15.525 64,-12.775 ; 66.4,-8.925 65.76,-12.775 64,-12.775 ; 69.07,-1.055 69.07,-4.085 70.32,-4.085 70.32,-1.055 ; 69.13,-13.755 68.472,-13.755 66.372,-8.98 75.652,-25.053 79.705,-22.713 79.85,-22.964 80.803,-22.414 80.918,-22.614 81.871,-22.064 81.991,-22.271 82.072,-22.293 83.129,-21.683 83.299,-21.978 84.364,-21.363 ; 70.469,-11.556 74.124,-9.446 ; 70.588,-11.515 ccw(c70.844,-12.118) 70.225,-12.333 73.049,-19.744 75.999,-24.853 ; 71.52,-8.675 72.028,-8.167 71.52,-7.659 ; 71.52,-6.855 72.924,-7.368 78.664,-17.31 ; 73.92,-22.173 73.507,-23.058 74.612,-24.972 75.622,-25.001 ; 78.679,-17.314 ccw(c80.125,-16.48) 80.959,-17.925 81.44,-17.647 ; 81.441,-17.644 cw(c82.222,-18.997) 83.575,-18.216 ; 82.138,-17.487 84.372,-21.335 84.467,-21.5 85.22,-21.065 83.54,-18.155 ; -64,-12.775 64,-12.775 ; -64,-12.775 -64,-1.055 ; -64,-1.055 -64,5.445 64,5.445 64,-1.055 ; 64,-12.775 64,-1.055
  text "1" at -58.035,-4.72 h1.5
  text "85" at -59.035,5.92 h1.5
  text "10" at -47.48,-4.72 h1.5
  text "93" at -48.875,5.92 h1.5
  text "95" at -41.255,5.92 h1.5
  text "40" at -4.425,-4.72 h1.5
  text "123" at -6.32,5.92 h1.5
  text "125" at 1.3,5.92 h1.5
  text "42" at 3.195,-4.72 h1.5
  text "84" at 56.535,-4.72 h1.5
  text "168" at 55.91,5.92 h1.5
  text "12" at -39.61,-4.72 h1.5

## 1-390172-5 [mm] "Connector; DIMM II; 168 Position; Right Angle"
height 12.7
pads (170):
  rect 1.4x1.4 hole 0.8: 1(-57.785,-0.245)
  round 1.4 hole 0.8: 2(-56.515,-2.145) 3(-55.245,-0.245) 4(-53.975,-2.145) 5(-52.705,-0.245) 6(-51.435,-2.145) 7(-50.165,-0.245) 8(-48.895,-2.145) 9(-47.625,-0.245) 10(-46.355,-2.145) 11(-40.005,-0.245) 12(-38.735,-2.145) 13(-37.465,-0.245) 14(-36.195,-2.145) 15(-34.925,-0.245) 16(-33.655,-2.145) 17(-32.385,-0.245) 18(-31.115,-2.145) 19(-29.845,-0.245) 20(-28.575,-2.145) 21(-27.305,-0.245) 22(-26.035,-2.145) 23(-24.765,-0.245) 24(-23.495,-2.145) 25(-22.225,-0.245) 26(-20.955,-2.145) 27(-19.685,-0.245) 28(-18.415,-2.145) 29(-17.145,-0.245) 30(-15.875,-2.145) 31(-14.605,-0.245) 32(-13.335,-2.145) 33(-12.065,-0.245) 34(-10.795,-2.145) 35(-9.525,-0.245) 36(-8.255,-2.145) 37(-6.985,-0.245) 38(-5.715,-2.145) 39(-4.445,-0.245) 40(-3.175,-2.145) 41(3.175,-0.245) 42(4.445,-2.145) 43(5.715,-0.245) 44(6.985,-2.145) 45(8.255,-0.245) 46(9.525,-2.145) 47(10.795,-0.245) 48(12.065,-2.145) 49(13.335,-0.245) 50(14.605,-2.145) 51(15.875,-0.245) 52(17.145,-2.145) 53(18.415,-0.245) 54(19.685,-2.145) 55(20.955,-0.245) 56(22.225,-2.145) 57(23.495,-0.245) 58(24.765,-2.145) 59(26.035,-0.245) 60(27.305,-2.145) 61(28.575,-0.245) 62(29.845,-2.145) 63(31.115,-0.245) 64(32.385,-2.145) 65(33.655,-0.245) 66(34.925,-2.145) 67(36.195,-0.245) 68(37.465,-2.145) 69(38.735,-0.245) 70(40.005,-2.145) 71(41.275,-0.245) 72(42.545,-2.145) 73(43.815,-0.245) 74(45.085,-2.145) 75(46.355,-0.245) 76(47.625,-2.145) 77(48.895,-0.245) 78(50.165,-2.145) 79(51.435,-0.245) 80(52.705,-2.145) 81(53.975,-0.245) 82(55.245,-2.145) 83(56.515,-0.245) 84(57.785,-2.145) 85(-57.785,3.555) 86(-56.515,1.655) 87(-55.245,3.555) 88(-53.975,1.655) 89(-52.705,3.555) 90(-51.435,1.655) 91(-50.165,3.555) 92(-48.895,1.655) 93(-47.625,3.555) 94(-46.355,1.655) 95(-40.005,3.555) 96(-38.735,1.655) 97(-37.465,3.555) 98(-36.195,1.655) 99(-34.925,3.555) 100(-33.655,1.655) 101(-32.385,3.555) 102(-31.115,1.655) 103(-29.845,3.555) 104(-28.575,1.655) 105(-27.305,3.555) 106(-26.035,1.655) 107(-24.765,3.555) 108(-23.495,1.655) 109(-22.225,3.555) 110(-20.955,1.655) 111(-19.685,3.555) 112(-18.415,1.655) 113(-17.145,3.555) 114(-15.875,1.655) 115(-14.605,3.555) 116(-13.335,1.655) 117(-12.065,3.555) 118(-10.795,1.655) 119(-9.525,3.555) 120(-8.255,1.655) 121(-6.985,3.555) 122(-5.715,1.655) 123(-4.445,3.555) 124(-3.175,1.655) 125(3.175,3.555) 126(4.445,1.655) 127(5.715,3.555) 128(6.985,1.655) 129(8.255,3.555) 130(9.525,1.655) 131(10.795,3.555) 132(12.065,1.655) 133(13.335,3.555) 134(14.605,1.655) 135(15.875,3.555) 136(17.145,1.655) 137(18.415,3.555) 138(19.685,1.655) 139(20.955,3.555) 140(22.225,1.655) 141(23.495,3.555) 142(24.765,1.655) 143(26.035,3.555) 144(27.305,1.655) 145(28.575,3.555) 146(29.845,1.655) 147(31.115,3.555) 148(32.385,1.655) 149(33.655,3.555) 150(34.925,1.655) 151(36.195,3.555) 152(37.465,1.655) 153(38.735,3.555) 154(40.005,1.655) 155(41.275,3.555) 156(42.545,1.655) 157(43.815,3.555) 158(45.085,1.655) 159(46.355,3.555) 160(47.625,1.655) 161(48.895,3.555) 162(50.165,1.655) 163(51.435,3.555) 164(52.705,1.655) 165(53.975,3.555) 166(55.245,1.655) 167(56.515,3.555) 168(57.785,1.655)
  round 2.778 hole 1.778: 169(-60.96,-3.555) 170(60.96,-3.555)
Top Overlay:
  lines w0.25: -84.364,-21.363 -83.299,-21.978 -83.129,-21.683 -82.072,-22.293 -81.991,-22.271 -81.871,-22.064 -80.918,-22.614 -80.803,-22.414 -79.85,-22.964 -79.705,-22.713 -75.652,-25.053 -66.372,-8.98 -68.472,-13.755 -69.13,-13.755 ; -83.575,-18.216 cw(c-82.222,-18.997) -81.441,-17.644 ; -83.54,-18.155 -85.22,-21.065 -84.467,-21.5 -84.372,-21.335 -82.138,-17.487 ; -81.44,-17.647 -80.959,-17.925 ccw(c-80.125,-16.48) -78.679,-17.314 ; -78.664,-17.31 -72.924,-7.368 -71.52,-6.855 ; -75.999,-24.853 -73.049,-19.744 -70.225,-12.333 ccw(c-70.844,-12.118) -70.588,-11.515 ; -75.622,-25.001 -74.612,-24.972 -73.507,-23.058 -73.92,-22.173 ; -74.124,-9.446 -70.469,-11.556 ; -71.52,-8.675 -72.028,-8.167 -71.52,-7.659 ; -70.32,-1.055 -70.32,-4.085 -69.07,-4.085 -69.07,-1.055 ; -66.4,-8.925 -65.76,-12.775 -64,-12.775 ; -65.04,-12.805 -65.04,-15.525 -64,-15.525 -64,-12.775 ; -64,-8.855 -71.52,-8.855 -71.52,-1.055 -64,-1.055 ; 64,-8.855 71.52,-8.855 71.52,-1.055 64,-1.055 ; 65.04,-12.805 65.04,-15.525 64,-15.525 64,-12.775 ; 66.4,-8.925 65.76,-12.775 64,-12.775 ; 69.07,-1.055 69.07,-4.085 70.32,-4.085 70.32,-1.055 ; 69.13,-13.755 68.472,-13.755 66.372,-8.98 75.652,-25.053 79.705,-22.713 79.85,-22.964 80.803,-22.414 80.918,-22.614 81.871,-22.064 81.991,-22.271 82.072,-22.293 83.129,-21.683 83.299,-21.978 84.364,-21.363 ; 70.469,-11.556 74.124,-9.446 ; 70.588,-11.515 ccw(c70.844,-12.118) 70.225,-12.333 73.049,-19.744 75.999,-24.853 ; 71.52,-8.675 72.028,-8.167 71.52,-7.659 ; 71.52,-6.855 72.924,-7.368 78.664,-17.31 ; 73.92,-22.173 73.507,-23.058 74.612,-24.972 75.622,-25.001 ; 78.679,-17.314 ccw(c80.125,-16.48) 80.959,-17.925 81.44,-17.647 ; 81.441,-17.644 cw(c82.222,-18.997) 83.575,-18.216 ; 82.138,-17.487 84.372,-21.335 84.467,-21.5 85.22,-21.065 83.54,-18.155 ; -64,-12.775 64,-12.775 ; -64,-12.775 -64,-1.055 ; -64,-1.055 -64,5.445 64,5.445 64,-1.055 ; 64,-12.775 64,-1.055
  text "1" at -58.035,-4.72 h1.5
  text "85" at -59.035,5.92 h1.5
  text "10" at -47.48,-4.72 h1.5
  text "93" at -48.875,5.92 h1.5
  text "95" at -41.255,5.92 h1.5
  text "40" at -4.425,-4.72 h1.5
  text "123" at -6.32,5.92 h1.5
  text "125" at 1.3,5.92 h1.5
  text "42" at 3.195,-4.72 h1.5
  text "84" at 56.535,-4.72 h1.5
  text "168" at 55.91,5.92 h1.5
  text "12" at -39.61,-4.72 h1.5

## 1-390172-6 [mm] "Connector; DIMM II; 168 Position; Right Angle"
height 12.7
pads (170):
  rect 1.4x1.4 hole 0.8: 1(-57.785,-0.245)
  round 1.4 hole 0.8: 2(-56.515,-2.145) 3(-55.245,-0.245) 4(-53.975,-2.145) 5(-52.705,-0.245) 6(-51.435,-2.145) 7(-50.165,-0.245) 8(-48.895,-2.145) 9(-47.625,-0.245) 10(-46.355,-2.145) 11(-40.005,-0.245) 12(-38.735,-2.145) 13(-37.465,-0.245) 14(-36.195,-2.145) 15(-34.925,-0.245) 16(-33.655,-2.145) 17(-32.385,-0.245) 18(-31.115,-2.145) 19(-29.845,-0.245) 20(-28.575,-2.145) 21(-27.305,-0.245) 22(-26.035,-2.145) 23(-24.765,-0.245) 24(-23.495,-2.145) 25(-22.225,-0.245) 26(-20.955,-2.145) 27(-19.685,-0.245) 28(-18.415,-2.145) 29(-17.145,-0.245) 30(-15.875,-2.145) 31(-14.605,-0.245) 32(-13.335,-2.145) 33(-12.065,-0.245) 34(-10.795,-2.145) 35(-9.525,-0.245) 36(-8.255,-2.145) 37(-6.985,-0.245) 38(-5.715,-2.145) 39(-4.445,-0.245) 40(-3.175,-2.145) 41(3.175,-0.245) 42(4.445,-2.145) 43(5.715,-0.245) 44(6.985,-2.145) 45(8.255,-0.245) 46(9.525,-2.145) 47(10.795,-0.245) 48(12.065,-2.145) 49(13.335,-0.245) 50(14.605,-2.145) 51(15.875,-0.245) 52(17.145,-2.145) 53(18.415,-0.245) 54(19.685,-2.145) 55(20.955,-0.245) 56(22.225,-2.145) 57(23.495,-0.245) 58(24.765,-2.145) 59(26.035,-0.245) 60(27.305,-2.145) 61(28.575,-0.245) 62(29.845,-2.145) 63(31.115,-0.245) 64(32.385,-2.145) 65(33.655,-0.245) 66(34.925,-2.145) 67(36.195,-0.245) 68(37.465,-2.145) 69(38.735,-0.245) 70(40.005,-2.145) 71(41.275,-0.245) 72(42.545,-2.145) 73(43.815,-0.245) 74(45.085,-2.145) 75(46.355,-0.245) 76(47.625,-2.145) 77(48.895,-0.245) 78(50.165,-2.145) 79(51.435,-0.245) 80(52.705,-2.145) 81(53.975,-0.245) 82(55.245,-2.145) 83(56.515,-0.245) 84(57.785,-2.145) 85(-57.785,3.555) 86(-56.515,1.655) 87(-55.245,3.555) 88(-53.975,1.655) 89(-52.705,3.555) 90(-51.435,1.655) 91(-50.165,3.555) 92(-48.895,1.655) 93(-47.625,3.555) 94(-46.355,1.655) 95(-40.005,3.555) 96(-38.735,1.655) 97(-37.465,3.555) 98(-36.195,1.655) 99(-34.925,3.555) 100(-33.655,1.655) 101(-32.385,3.555) 102(-31.115,1.655) 103(-29.845,3.555) 104(-28.575,1.655) 105(-27.305,3.555) 106(-26.035,1.655) 107(-24.765,3.555) 108(-23.495,1.655) 109(-22.225,3.555) 110(-20.955,1.655) 111(-19.685,3.555) 112(-18.415,1.655) 113(-17.145,3.555) 114(-15.875,1.655) 115(-14.605,3.555) 116(-13.335,1.655) 117(-12.065,3.555) 118(-10.795,1.655) 119(-9.525,3.555) 120(-8.255,1.655) 121(-6.985,3.555) 122(-5.715,1.655) 123(-4.445,3.555) 124(-3.175,1.655) 125(3.175,3.555) 126(4.445,1.655) 127(5.715,3.555) 128(6.985,1.655) 129(8.255,3.555) 130(9.525,1.655) 131(10.795,3.555) 132(12.065,1.655) 133(13.335,3.555) 134(14.605,1.655) 135(15.875,3.555) 136(17.145,1.655) 137(18.415,3.555) 138(19.685,1.655) 139(20.955,3.555) 140(22.225,1.655) 141(23.495,3.555) 142(24.765,1.655) 143(26.035,3.555) 144(27.305,1.655) 145(28.575,3.555) 146(29.845,1.655) 147(31.115,3.555) 148(32.385,1.655) 149(33.655,3.555) 150(34.925,1.655) 151(36.195,3.555) 152(37.465,1.655) 153(38.735,3.555) 154(40.005,1.655) 155(41.275,3.555) 156(42.545,1.655) 157(43.815,3.555) 158(45.085,1.655) 159(46.355,3.555) 160(47.625,1.655) 161(48.895,3.555) 162(50.165,1.655) 163(51.435,3.555) 164(52.705,1.655) 165(53.975,3.555) 166(55.245,1.655) 167(56.515,3.555) 168(57.785,1.655)
  round 2.778 hole 1.778: 169(-60.96,-3.555) 170(60.96,-3.555)
Top Overlay:
  lines w0.25: -84.364,-21.363 -83.299,-21.978 -83.129,-21.683 -82.072,-22.293 -81.991,-22.271 -81.871,-22.064 -80.918,-22.614 -80.803,-22.414 -79.85,-22.964 -79.705,-22.713 -75.652,-25.053 -66.372,-8.98 -68.472,-13.755 -69.13,-13.755 ; -83.575,-18.216 cw(c-82.222,-18.997) -81.441,-17.644 ; -83.54,-18.155 -85.22,-21.065 -84.467,-21.5 -84.372,-21.335 -82.138,-17.487 ; -81.44,-17.647 -80.959,-17.925 ccw(c-80.125,-16.48) -78.679,-17.314 ; -78.664,-17.31 -72.924,-7.368 -71.52,-6.855 ; -75.999,-24.853 -73.049,-19.744 -70.225,-12.333 ccw(c-70.844,-12.118) -70.588,-11.515 ; -75.622,-25.001 -74.612,-24.972 -73.507,-23.058 -73.92,-22.173 ; -74.124,-9.446 -70.469,-11.556 ; -71.52,-8.675 -72.028,-8.167 -71.52,-7.659 ; -70.32,-1.055 -70.32,-4.085 -69.07,-4.085 -69.07,-1.055 ; -66.4,-8.925 -65.76,-12.775 -64,-12.775 ; -65.04,-12.805 -65.04,-15.525 -64,-15.525 -64,-12.775 ; -64,-8.855 -71.52,-8.855 -71.52,-1.055 -64,-1.055 ; 64,-8.855 71.52,-8.855 71.52,-1.055 64,-1.055 ; 65.04,-12.805 65.04,-15.525 64,-15.525 64,-12.775 ; 66.4,-8.925 65.76,-12.775 64,-12.775 ; 69.07,-1.055 69.07,-4.085 70.32,-4.085 70.32,-1.055 ; 69.13,-13.755 68.472,-13.755 66.372,-8.98 75.652,-25.053 79.705,-22.713 79.85,-22.964 80.803,-22.414 80.918,-22.614 81.871,-22.064 81.991,-22.271 82.072,-22.293 83.129,-21.683 83.299,-21.978 84.364,-21.363 ; 70.469,-11.556 74.124,-9.446 ; 70.588,-11.515 ccw(c70.844,-12.118) 70.225,-12.333 73.049,-19.744 75.999,-24.853 ; 71.52,-8.675 72.028,-8.167 71.52,-7.659 ; 71.52,-6.855 72.924,-7.368 78.664,-17.31 ; 73.92,-22.173 73.507,-23.058 74.612,-24.972 75.622,-25.001 ; 78.679,-17.314 ccw(c80.125,-16.48) 80.959,-17.925 81.44,-17.647 ; 81.441,-17.644 cw(c82.222,-18.997) 83.575,-18.216 ; 82.138,-17.487 84.372,-21.335 84.467,-21.5 85.22,-21.065 83.54,-18.155 ; -64,-12.775 64,-12.775 ; -64,-12.775 -64,-1.055 ; -64,-1.055 -64,5.445 64,5.445 64,-1.055 ; 64,-12.775 64,-1.055
  text "1" at -58.035,-4.72 h1.5
  text "85" at -59.035,5.92 h1.5
  text "10" at -47.48,-4.72 h1.5
  text "93" at -48.875,5.92 h1.5
  text "95" at -41.255,5.92 h1.5
  text "40" at -4.425,-4.72 h1.5
  text "123" at -6.32,5.92 h1.5
  text "125" at 1.3,5.92 h1.5
  text "42" at 3.195,-4.72 h1.5
  text "84" at 56.535,-4.72 h1.5
  text "168" at 55.91,5.92 h1.5
  text "12" at -39.61,-4.72 h1.5